# Altium footprint library Resistors.PcbLib: 65 footprints (part 3 of 5)
Each footprint in its own frame and in the unit in brackets; x right, y up, seen from the top. Pads: shape width x height; smd on the part's side, far side on the other; paste and mask are expansions set on the pad; w line width, h text height; cw(c..) or ccw(c..) is an arc to the next point about the centre after c.
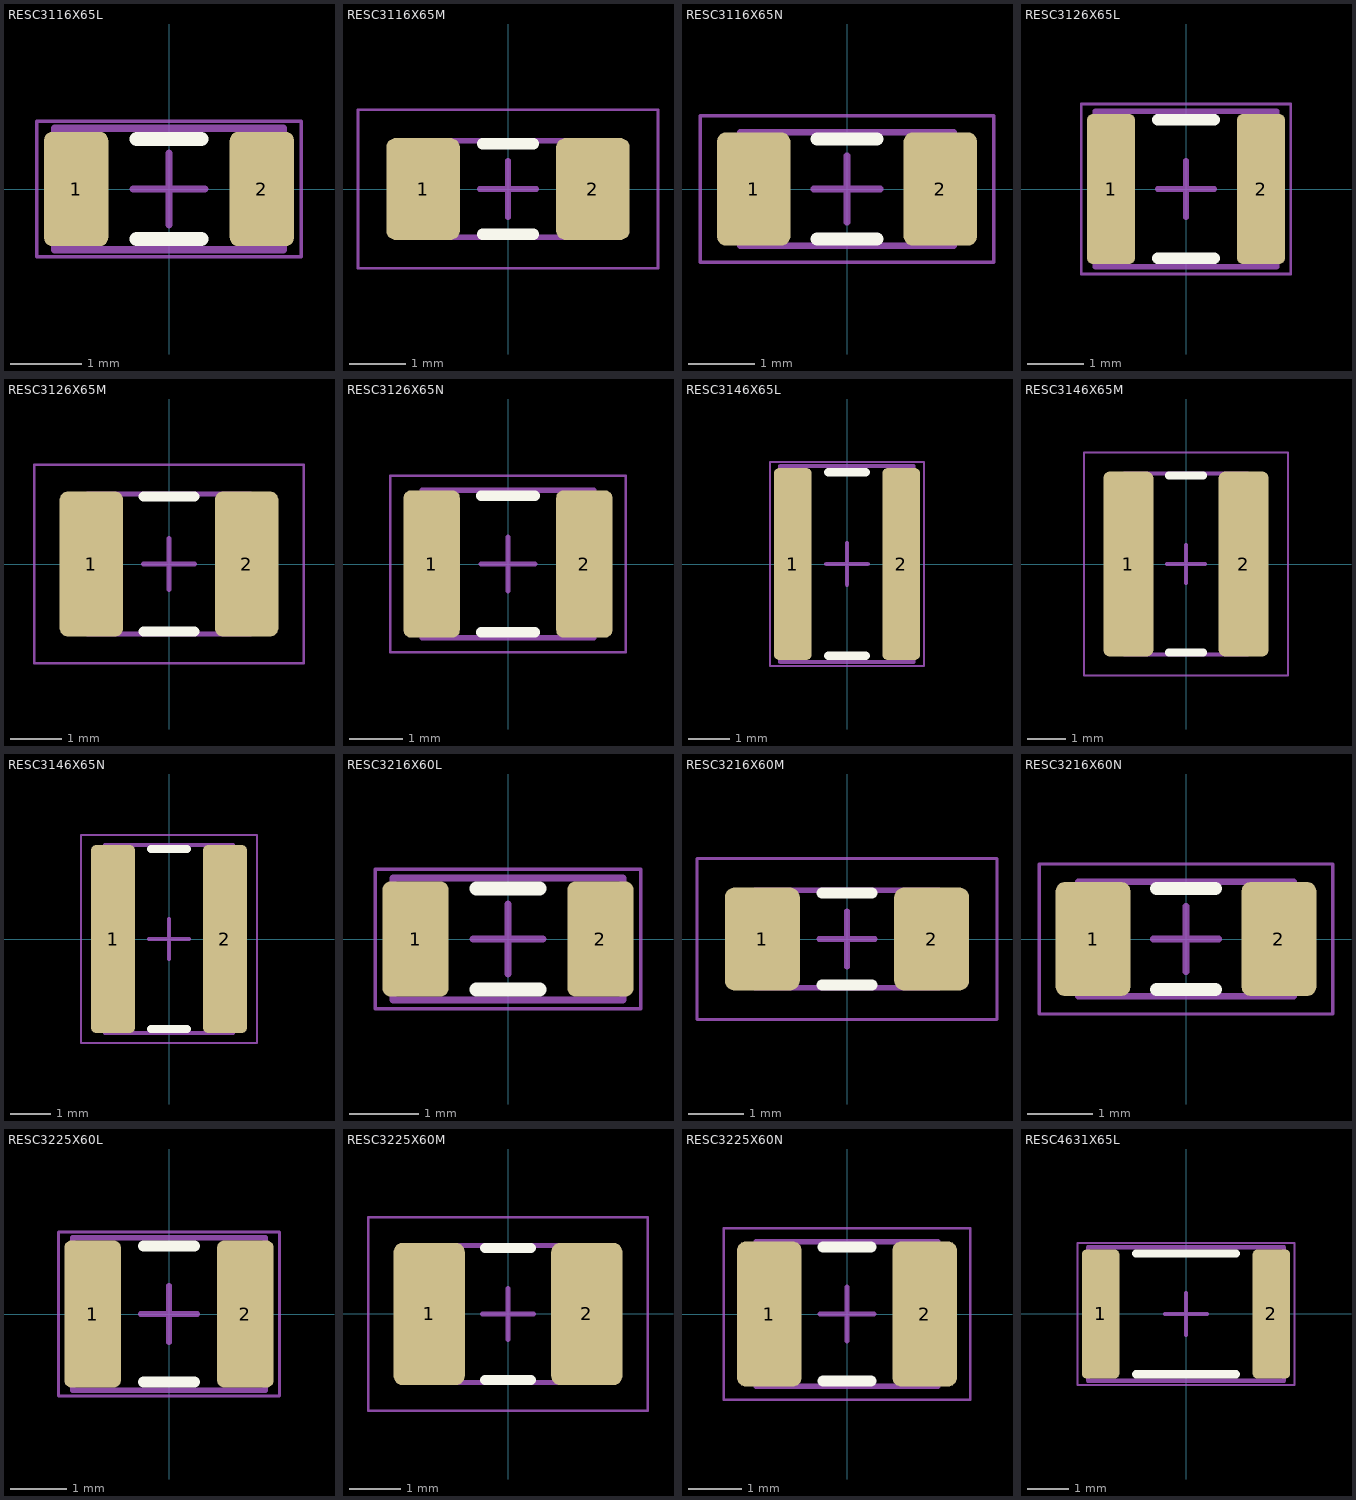
[diagram p2: the footprints below, top view; thin cyan lines are the x and y axes]

## RESC3116X65L [mm] "Chip Resistor, EIA 1206, Metric 3116, Body 3.10x1.60mm, IPC High Density"
height 0.65
pads (2):
  rrect25% 0.9x1.6 smd paste+0 mask+0.05: 1(-1.3,0) 2(1.3,0)
Top Overlay:
  lines w0.2: -0.45,-0.7 0.45,-0.7 ; -0.45,0.7 0.45,0.7
Top Component Outline:
  lines w0.1: -1.6,-0.85 1.6,-0.85 1.6,0.85 -1.6,0.85 -1.6,-0.85
Top Courtyard:
  lines w0.05: -1.85,-0.95 -1.85,0.95 1.85,0.95 1.85,-0.95 -1.85,-0.95
Top Component Center:
  lines w0.1: -0.5,0 0.5,0 ; 0,-0.5 0,0.5
Top Designator:
  text ".Designator" at -4.04,-0.476 h2
Top Assembly:
  lines w0.1: -1.6,-0.85 -1.6,0.85 1.6,0.85 1.6,-0.85 -1.6,-0.85
  text ".Designator" at -4.04,-0.476 h2
3D body "RESC3116X65.step": height 0.65, standoff 0, extent -1.6,-0.85 1.6,0.85

## RESC3116X65M [mm] "Chip Resistor, EIA 1206, Metric 3116, Body 3.10x1.60mm, IPC Low Density"
height 0.65
pads (2):
  rrect25% 1.3x1.8 smd paste+0 mask+0.05: 1(-1.5,0) 2(1.5,0)
Top Overlay:
  lines w0.2: -0.45,-0.8 0.45,-0.8 ; -0.45,0.8 0.45,0.8
Top Component Outline:
  lines w0.1: -1.6,-0.85 1.6,-0.85 1.6,0.85 -1.6,0.85 -1.6,-0.85
Top Courtyard:
  lines w0.05: -2.65,-1.4 2.65,-1.4 2.65,1.4 -2.65,1.4 -2.65,-1.4
Top Component Center:
  lines w0.1: -0.5,0 0.5,0 ; 0,-0.5 0,0.5
Top Designator:
  text ".Designator" at -4.04,-0.476 h2
Top Assembly:
  lines w0.1: -1.6,-0.85 1.6,-0.85 1.6,0.85 -1.6,0.85 -1.6,-0.85
  text ".Designator" at -4.04,-0.476 h2
3D body "RESC3116X65.step": height 0.65, standoff 0, extent -1.6,-0.85 1.6,0.85

## RESC3116X65N [mm] "Chip Resistor, EIA 1206, Metric 3116, Body 3.10x1.60mm, IPC Medium Density"
height 0.65
pads (2):
  rrect25% 1.1x1.7 smd paste+0 mask+0.05: 1(-1.4,0) 2(1.4,0)
Top Overlay:
  lines w0.2: -0.45,-0.75 0.45,-0.75 ; -0.45,0.75 0.45,0.75
Top Component Outline:
  lines w0.1: -1.6,-0.85 -1.6,0.85 1.6,0.85 1.6,-0.85 -1.6,-0.85
Top Courtyard:
  lines w0.05: -2.2,-1.1 -2.2,1.1 2.2,1.1 2.2,-1.1 -2.2,-1.1
Top Component Center:
  lines w0.1: -0.5,0 0.5,0 ; 0,-0.5 0,0.5
Top Designator:
  text ".Designator" at -4.04,-0.476 h2
Top Assembly:
  lines w0.1: -1.6,-0.85 -1.6,0.85 1.6,0.85 1.6,-0.85 -1.6,-0.85
  text ".Designator" at -4.04,-0.476 h2
3D body "RESC3116X65.step": height 0.65, standoff 0, extent -1.6,-0.85 1.6,0.85

## RESC3126X65L [mm] "Chip Resistor, EIA 1210, Metric 3126, Body 3.10x2.60mm, IPC High Density"
height 0.65
pads (2):
  rrect25% 0.85x2.65 smd paste+0 mask+0.05: 1(-1.325,0) 2(1.325,0)
Top Overlay:
  lines w0.2: -0.5,-1.225 0.5,-1.225 ; -0.5,1.225 0.5,1.225
Top Component Outline:
  lines w0.1: -1.6,-1.375 1.6,-1.375 1.6,1.375 -1.6,1.375 -1.6,-1.375
Top Courtyard:
  lines w0.05: -1.85,-1.5 -1.85,1.5 1.85,1.5 1.85,-1.5 -1.85,-1.5
Top Component Center:
  lines w0.1: -0.5,0 0.5,0 ; 0,-0.5 0,0.5
Top Designator:
  text ".Designator" at -4.04,-0.476 h2
Top Assembly:
  lines w0.1: -1.6,-1.375 -1.6,1.375 1.6,1.375 1.6,-1.375 -1.6,-1.375
  text ".Designator" at -4.04,-0.476 h2
3D body "RESC3126X65.step": height 0.65, standoff 0, extent -1.6,-1.375 1.6,1.375

## RESC3126X65M [mm] "Chip Resistor, EIA 1210, Metric 3126, Body 3.10x2.60mm, IPC Low Density"
height 0.65
pads (2):
  rrect25% 1.25x2.85 smd paste+0 mask+0.05: 1(-1.525,0) 2(1.525,0)
Top Overlay:
  lines w0.2: -0.5,-1.325 0.5,-1.325 ; -0.5,1.325 0.5,1.325
Top Component Outline:
  lines w0.1: -1.6,-1.375 1.6,-1.375 1.6,1.375 -1.6,1.375 -1.6,-1.375
Top Courtyard:
  lines w0.05: -2.65,-1.95 -2.65,1.95 2.65,1.95 2.65,-1.95 -2.65,-1.95
Top Component Center:
  lines w0.1: -0.5,0 0.5,0 ; 0,-0.5 0,0.5
Top Designator:
  text ".Designator" at -4.04,-0.476 h2
Top Assembly:
  lines w0.1: -1.6,-1.375 -1.6,1.375 1.6,1.375 1.6,-1.375 -1.6,-1.375
  text ".Designator" at -4.04,-0.476 h2
3D body "RESC3126X65.step": height 0.65, standoff 0, extent -1.6,-1.375 1.6,1.375

## RESC3126X65N [mm] "Chip Resistor, EIA 1210, Metric 3126,  Body 3.10x2.60mm, IPC Medium Density"
height 0.65
pads (2):
  rrect25% 1.05x2.75 smd paste+0 mask+0.05: 1(-1.425,0) 2(1.425,0)
Top Overlay:
  lines w0.2: -0.5,-1.275 0.5,-1.275 ; -0.5,1.275 0.5,1.275
Top Component Outline:
  lines w0.1: -1.6,-1.375 -1.6,1.375 1.6,1.375 1.6,-1.375 -1.6,-1.375
Top Courtyard:
  lines w0.05: -2.2,-1.65 -2.2,1.65 2.2,1.65 2.2,-1.65 -2.2,-1.65
Top Component Center:
  lines w0.1: -0.5,0 0.5,0 ; 0,-0.5 0,0.5
Top Designator:
  text ".Designator" at -4.04,-0.476 h2
Top Assembly:
  lines w0.1: -1.6,-1.375 -1.6,1.375 1.6,1.375 1.6,-1.375 -1.6,-1.375
  text ".Designator" at -4.04,-0.476 h2
3D body "RESC3126X65.step": height 0.65, standoff 0, extent -1.6,-1.375 1.6,1.375

## RESC3146X65L [mm] "Chip Resistor, EIA 1218, Metric 3245, Body 3.10x4.60mm, IPC High Density"
height 0.65
pads (2):
  rrect25% 0.9x4.6 smd paste+0 mask+0.05: 1(-1.3,0) 2(1.3,0)
Top Overlay:
  lines w0.2: -0.45,-2.2 0.45,-2.2 ; -0.45,2.2 0.45,2.2
Top Component Outline:
  lines w0.1: -1.6,-2.35 1.6,-2.35 1.6,2.35 -1.6,2.35 -1.6,-2.35
Top Courtyard:
  lines w0.05: -1.85,-2.45 -1.85,2.45 1.85,2.45 1.85,-2.45 -1.85,-2.45
Top Component Center:
  lines w0.1: -0.5,0 0.5,0 ; 0,-0.5 0,0.5
Top Designator:
  text ".Designator" at -4.04,-0.476 h2
Top Assembly:
  lines w0.1: -1.6,-2.35 -1.6,2.35 1.6,2.35 1.6,-2.35 -1.6,-2.35
  text ".Designator" at -4.04,-0.476 h2
3D body "RESC3146X65.step": height 0.65, standoff 0, extent -1.7,-2.35 1.5,2.35

## RESC3146X65M [mm] "Chip Resistor, EIA 1218, Metric 3245, Body 3.10x4.60mm, IPC Low Density"
height 0.65
pads (2):
  rrect25% 1.3x4.8 smd paste+0 mask+0.05: 1(-1.5,0) 2(1.5,0)
Top Overlay:
  lines w0.2: -0.45,-2.3 0.45,-2.3 ; -0.45,2.3 0.45,2.3
Top Component Outline:
  lines w0.1: -1.6,-2.35 -1.6,2.35 1.6,2.35 1.6,-2.35 -1.6,-2.35
Top Courtyard:
  lines w0.05: -2.65,-2.9 2.65,-2.9 2.65,2.9 -2.65,2.9 -2.65,-2.9
Top Component Center:
  lines w0.1: -0.5,0 0.5,0 ; 0,-0.5 0,0.5
Top Designator:
  text ".Designator" at -4.04,-0.476 h2
Top Assembly:
  lines w0.1: -1.6,-2.35 1.6,-2.35 1.6,2.35 -1.6,2.35 -1.6,-2.35
  text ".Designator" at -4.04,-0.476 h2
3D body "RESC3146X65.step": height 0.65, standoff 0, extent -1.6,-2.35 1.6,2.35

## RESC3146X65N [mm] "Chip Resistor, EIA 1218, Metric 3245, Body 3.10x4.60mm, IPC Medium Density"
height 0.65
pads (2):
  rrect25% 1.1x4.7 smd paste+0 mask+0.05: 1(-1.4,0) 2(1.4,0)
Top Overlay:
  lines w0.2: -0.45,-2.25 0.45,-2.25 ; -0.45,2.25 0.45,2.25
Top Component Outline:
  lines w0.1: -1.6,-2.35 -1.6,2.35 1.6,2.35 1.6,-2.35 -1.6,-2.35
Top Courtyard:
  lines w0.05: -2.2,-2.6 2.2,-2.6 2.2,2.6 -2.2,2.6 -2.2,-2.6
Top Component Center:
  lines w0.1: -0.5,0 0.5,0 ; 0,-0.5 0,0.5
Top Designator:
  text ".Designator" at -4.04,-0.476 h2
Top Assembly:
  lines w0.1: -1.6,-2.35 1.6,-2.35 1.6,2.35 -1.6,2.35 -1.6,-2.35
  text ".Designator" at -4.04,-0.476 h2
3D body "RESC3146X65.step": height 0.65, standoff 0, extent -1.6,-2.35 1.6,2.35

## RESC3216X60L [mm] "Chip Resistor, EIA 1206, Metric 3116, Body 3.15x1.60mm, IPC High Density"
height 0.6
pads (2):
  rrect25% 0.95x1.65 smd paste+0 mask+0.05: 1(-1.325,0) 2(1.325,0)
Top Overlay:
  lines w0.2: -0.45,-0.725 0.45,-0.725 ; -0.45,0.725 0.45,0.725
Top Component Outline:
  lines w0.1: -1.65,-0.875 -1.65,0.875 1.65,0.875 1.65,-0.875 -1.65,-0.875
Top Courtyard:
  lines w0.05: -1.9,-1 1.9,-1 1.9,1 -1.9,1 -1.9,-1
Top Component Center:
  lines w0.1: -0.5,0 0.5,0 ; 0,-0.5 0,0.5
Top Designator:
  text ".Designator" at -4.04,-0.476 h2
Top Assembly:
  lines w0.1: -1.65,-0.875 1.65,-0.875 1.65,0.875 -1.65,0.875 -1.65,-0.875
  text ".Designator" at -4.04,-0.476 h2
3D body "RESC3216X60.step": height 0.6, standoff 0, extent -1.65,-0.875 1.65,0.875

## RESC3216X60M [mm] "Chip Resistor, EIA 1206, Metric 3116, Body 3.15x1.60mm, IPC Low Density"
height 0.6
pads (2):
  rrect25% 1.35x1.85 smd paste+0 mask+0.05: 1(-1.525,0) 2(1.525,0)
Top Overlay:
  lines w0.2: -0.45,-0.825 0.45,-0.825 ; -0.45,0.825 0.45,0.825
Top Component Outline:
  lines w0.1: -1.65,-0.875 1.65,-0.875 1.65,0.875 -1.65,0.875 -1.65,-0.875
Top Courtyard:
  lines w0.05: -2.7,-1.45 2.7,-1.45 2.7,1.45 -2.7,1.45 -2.7,-1.45
Top Component Center:
  lines w0.1: -0.5,0 0.5,0 ; 0,-0.5 0,0.5
Top Designator:
  text ".Designator" at -4.04,-0.476 h2
Top Assembly:
  lines w0.1: -1.65,-0.875 1.65,-0.875 1.65,0.875 -1.65,0.875 -1.65,-0.875
  text ".Designator" at -4.04,-0.476 h2
3D body "RESC3216X60.step": height 0.6, standoff 0, extent -1.65,-0.875 1.65,0.875

## RESC3216X60N [mm] "Chip Resistor, EIA 1206, Metric 3116, Body 3.15x1.60mm, IPC Medium Density"
height 0.6
pads (2):
  rrect25% 1.15x1.75 smd paste+0 mask+0.05: 1(-1.425,0) 2(1.425,0)
Top Overlay:
  lines w0.2: -0.45,-0.775 0.45,-0.775 ; -0.45,0.775 0.45,0.775
Top Component Outline:
  lines w0.1: -1.65,-0.875 1.65,-0.875 1.65,0.875 -1.65,0.875 -1.65,-0.875
Top Courtyard:
  lines w0.05: -2.25,-1.15 2.25,-1.15 2.25,1.15 -2.25,1.15 -2.25,-1.15
Top Component Center:
  lines w0.1: -0.5,0 0.5,0 ; 0,-0.5 0,0.5
Top Designator:
  text ".Designator" at -4.04,-0.476 h2
Top Assembly:
  lines w0.1: -1.65,-0.875 1.65,-0.875 1.65,0.875 -1.65,0.875 -1.65,-0.875
  text ".Designator" at -4.04,-0.476 h2
3D body "RESC3216X60.step": height 0.6, standoff 0, extent -1.65,-0.875 1.65,0.875

## RESC3225X60L [mm] "Chip Resistor, EIA 1210, Metric 3225, Body 3.20x2.50mm, IPC High Density"
height 0.6
pads (2):
  rrect25% 1x2.6 smd paste+0 mask+0.05: 1(-1.35,0) 2(1.35,0)
Top Overlay:
  lines w0.2: -0.45,-1.2 0.45,-1.2 ; -0.45,1.2 0.45,1.2
Top Component Outline:
  lines w0.1: -1.7,-1.35 -1.7,1.35 1.7,1.35 1.7,-1.35 -1.7,-1.35
Top Courtyard:
  lines w0.05: -1.95,-1.45 1.95,-1.45 1.95,1.45 -1.95,1.45 -1.95,-1.45
Top Component Center:
  lines w0.1: -0.5,0 0.5,0 ; 0,-0.5 0,0.5
Top Designator:
  text ".Designator" at -4.04,-0.476 h2
Top Assembly:
  lines w0.1: -1.7,-1.35 1.7,-1.35 1.7,1.35 -1.7,1.35 -1.7,-1.35
  text ".Designator" at -4.04,-0.476 h2
3D body "RESC3225X60.step": height 0.6, standoff 0, extent -1.7,-1.35 1.7,1.35

## RESC3225X60M [mm] "Chip Resistor, EIA 1210, Metric 3225, Body 3.20x2.50mm, IPC Low Density"
height 0.6
pads (2):
  rrect25% 1.4x2.8 smd paste+0 mask+0.05: 1(-1.55,0) 2(1.55,0)
Top Overlay:
  lines w0.2: -0.45,-1.3 0.45,-1.3 ; -0.45,1.3 0.45,1.3
Top Component Outline:
  lines w0.1: -1.7,-1.35 -1.7,1.35 1.7,1.35 1.7,-1.35 -1.7,-1.35
Top Courtyard:
  lines w0.05: -2.75,-1.9 2.75,-1.9 2.75,1.9 -2.75,1.9 -2.75,-1.9
Top Component Center:
  lines w0.1: -0.5,0 0.5,0 ; 0,-0.5 0,0.5
Top Designator:
  text ".Designator" at -4.04,-0.476 h2
Top Assembly:
  lines w0.1: -1.7,-1.35 1.7,-1.35 1.7,1.35 -1.7,1.35 -1.7,-1.35
  text ".Designator" at -4.04,-0.476 h2
3D body "RESC3225X60.step": height 0.6, standoff 0, extent -1.7,-1.35 1.7,1.35

## RESC3225X60N [mm] "Chip Resistor, EIA 1210, Metric 3225, Body 3.20x2.50mm, IPC Medium Density"
height 0.6
pads (2):
  rrect25% 1.2x2.7 smd paste+0 mask+0.05: 1(-1.45,0) 2(1.45,0)
Top Overlay:
  lines w0.2: -0.45,-1.25 0.45,-1.25 ; -0.45,1.25 0.45,1.25
Top Component Outline:
  lines w0.1: -1.7,-1.35 1.7,-1.35 1.7,1.35 -1.7,1.35 -1.7,-1.35
Top Courtyard:
  lines w0.05: -2.3,-1.6 2.3,-1.6 2.3,1.6 -2.3,1.6 -2.3,-1.6
Top Component Center:
  lines w0.1: -0.5,0 0.5,0 ; 0,-0.5 0,0.5
Top Designator:
  text ".Designator" at -4.04,-0.476 h2
Top Assembly:
  lines w0.1: -1.7,-1.35 1.7,-1.35 1.7,1.35 -1.7,1.35 -1.7,-1.35
  text ".Designator" at -4.04,-0.476 h2
3D body "RESC3225X60.step": height 0.6, standoff 0, extent -1.7,-1.35 1.7,1.35

## RESC4631X65L [mm] "Chip Resistor, EIA 1812, Metric 4532, Body 4.60x3.10mm, IPC High Density"
height 0.65
pads (2):
  rrect25% 0.9x3.1 smd paste+0 mask+0.05: 1(-2.05,0) 2(2.05,0)
Top Overlay:
  lines w0.2: -1.2,-1.45 1.2,-1.45 ; -1.2,1.45 1.2,1.45
Top Component Outline:
  lines w0.1: -2.35,-1.6 2.35,-1.6 2.35,1.6 -2.35,1.6 -2.35,-1.6
Top Courtyard:
  lines w0.05: -2.6,-1.7 -2.6,1.7 2.6,1.7 2.6,-1.7 -2.6,-1.7
Top Component Center:
  lines w0.1: -0.5,0 0.5,0 ; 0,-0.5 0,0.5
Top Designator:
  text ".Designator" at -4.04,-0.476 h2
Top Assembly:
  lines w0.1: -2.35,-1.6 -2.35,1.6 2.35,1.6 2.35,-1.6 -2.35,-1.6
  text ".Designator" at -4.04,-0.476 h2
3D body "RESC4631X65.step": height 0.65, standoff 0, extent -2.35,-1.6 2.35,1.6